# Altium footprint library 9-Comp+Tests.PcbLib: 125 footprints (part 7 of 8)
Each footprint in its own frame and in the unit in brackets; x right, y up, seen from the top. Pads: shape width x height; smd on the part's side, far side on the other; paste and mask are expansions set on the pad; w line width, h text height; cw(c..) or ccw(c..) is an arc to the next point about the centre after c.
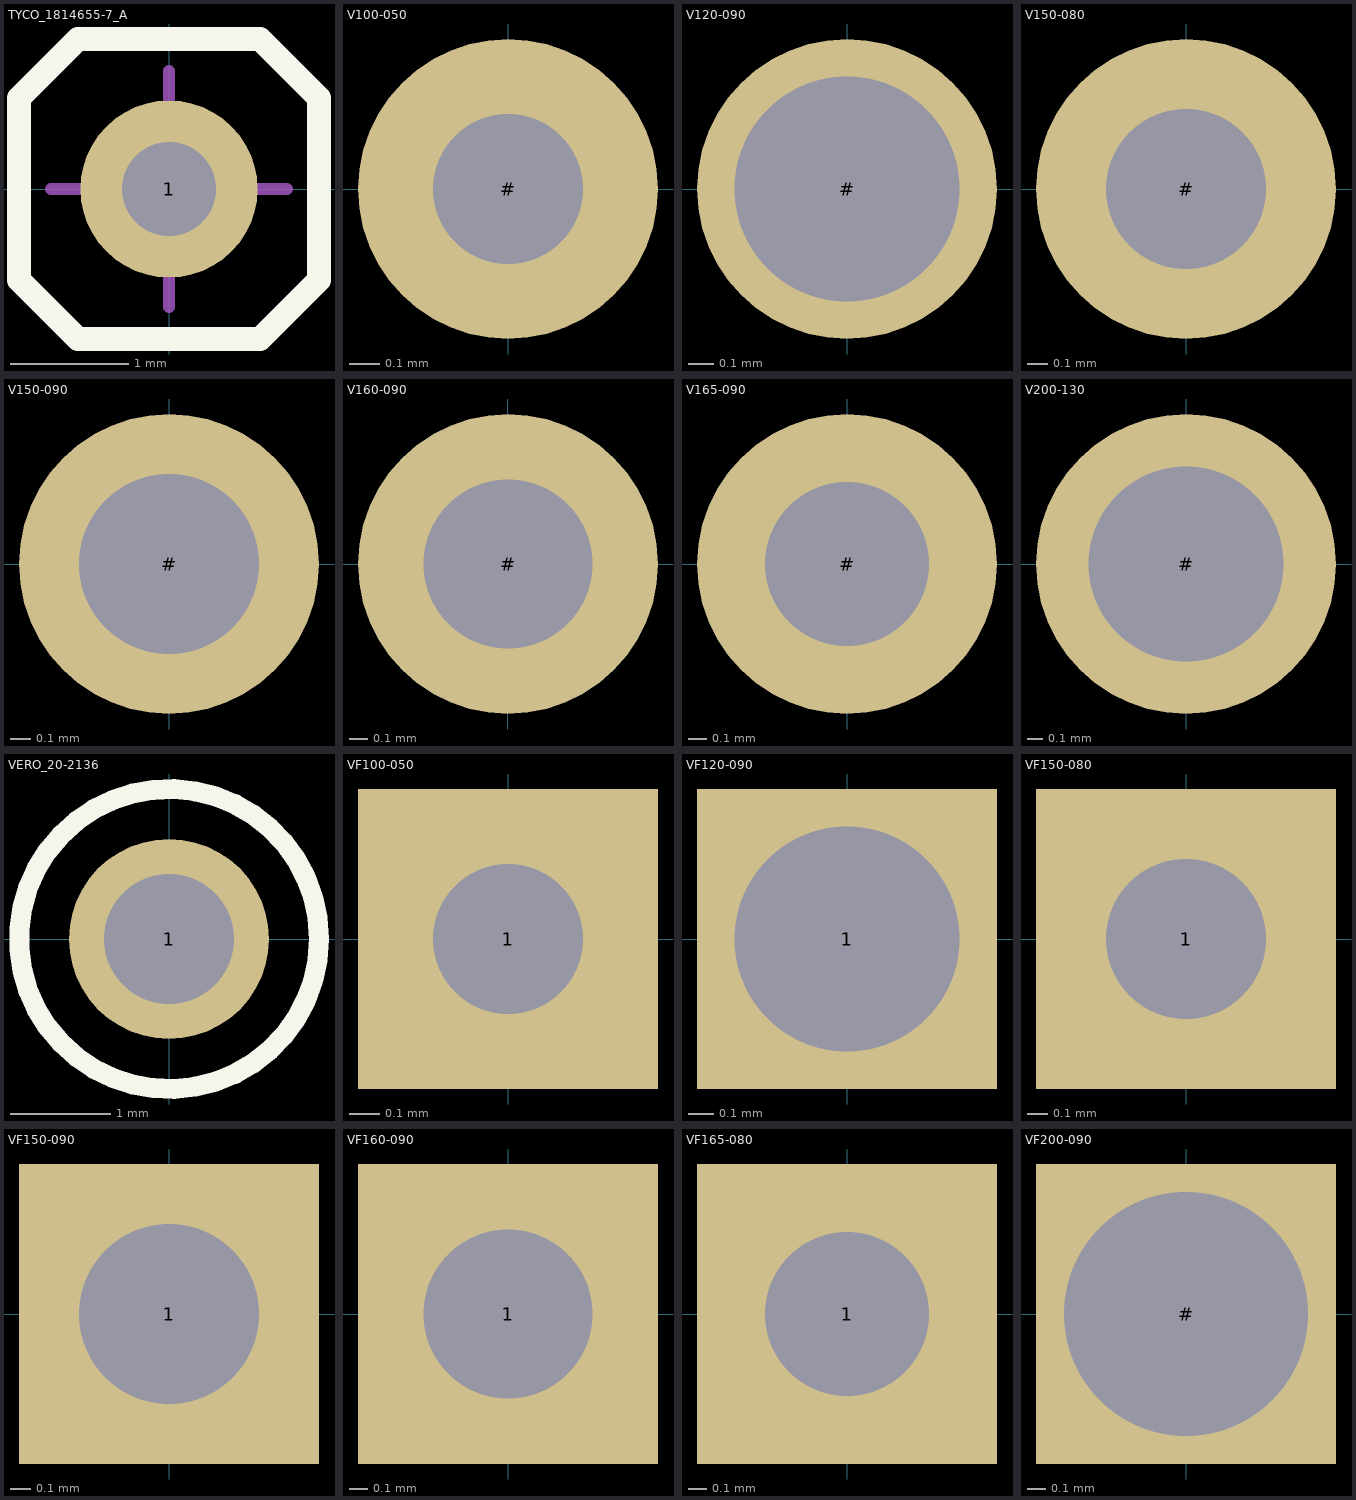
[diagram p6: the footprints below, top view; thin cyan lines are the x and y axes]

## TYCO_1814655-7_A [mm] "1 of 10 Positions, Pitch 2.54mm, Width 2.54mm, Heigh 4.4mm, SIP Straight Socket"
height 4.4
pads (1):
  round 1.5 hole 0.8: 1(0,0)
Top Overlay:
  lines w0.2: -1.27,-0.77 -0.77,-1.27 0.77,-1.27 1.27,-0.77 1.27,0.77 0.77,1.27 -0.77,1.27 -1.27,0.77 -1.27,-0.77
Mechanical 8:
  lines w0.1: -1,0 0,0 ; 0,-1 0,0 ; 0,1 0,0 ; 1,0 0,0
Mechanical 14:
  lines w0.1: -1.27,-0.77 -0.77,-1.27 0.77,-1.27 1.27,-0.77 1.27,0.77 0.77,1.27 -0.77,1.27 -1.27,0.77 -1.27,-0.77
3D body "TYCO_1814655-7_a.stp": height 4.4, standoff -2.9, extent -1.27,-1.27 1.27,1.27

## V100-050 [mm]
pads (1):
  round 1 hole 0.5: #(0,0)
3D body "v100-050.stp": height 0.02, standoff -1.65, extent -0.5,-0.5 0.5,0.5

## V120-090 [mm]
pads (1):
  round 1.2 hole 0.9: #(0,0)
3D body "v120-090.stp": height 0.02, standoff -1.65, extent -0.6,-0.6 0.6,0.6

## V150-080 [mm]
pads (1):
  round 1.5 hole 0.8: #(0,0)
3D body "v150-080.stp": height 0.02, standoff -1.65, extent -0.75,-0.75 0.75,0.75

## V150-090 [mm]
pads (1):
  round 1.5 hole 0.9: #(0,0)
3D body "v150-090.stp": height 0.02, standoff -1.65, extent -0.75,-0.75 0.75,0.75

## V160-090 [mm]
pads (1):
  round 1.6 hole 0.9: #(0,0)
3D body "v160-090.stp": height 0.02, standoff -1.65, extent -0.8,-0.8 0.8,0.8

## V165-090 [mm]
pads (1):
  round 1.65 hole 0.9: #(0,0)
3D body "v165-090.stp": height 0.02, standoff -1.65, extent -0.825,-0.825 0.825,0.825

## V200-130 [mm]
pads (1):
  round 2 hole 1.3: #(0,0)
3D body "v200-130.stp": height 0.02, standoff -1.65, extent -1,-1 1,1

## VERO_20-2136 [mm] "Black Bead PCB Terminal Test Pin (1.32 mm hole)"
height 5.4
pads (1):
  round 2 hole 1.3: 1(0,0)
Top Overlay:
  circle w0.2: c0,0 r1.5
Mechanical 14:
  circle w0.1: c0,0 r1.5
3D body "VERO_20-2136.stp": height 5.4, standoff -3.17, extent -1.5,-1.5 1.5,1.5

## VF100-050 [mm]
pads (1):
  rect 1x1 hole 0.5: 1(0,0)
3D body "vf100-050.stp": height 0.01, standoff -1.65, extent -0.5,-0.5 0.5,0.5

## VF120-090 [mm]
pads (1):
  rect 1.2x1.2 hole 0.9: 1(0,0)
3D body "vf120-090.stp": height 0.01, standoff -1.65, extent -0.6,-0.6 0.6,0.6

## VF150-080 [mm]
pads (1):
  rect 1.5x1.5 hole 0.8: 1(0,0)
3D body "vf150-080.stp": height 0.01, standoff -1.65, extent -0.75,-0.75 0.75,0.75

## VF150-090 [mm]
pads (1):
  rect 1.5x1.5 hole 0.9: 1(0,0)
3D body "vf150-090.stp": height 0.01, standoff -1.65, extent -0.75,-0.75 0.75,0.75

## VF160-090 [mm]
pads (1):
  rect 1.6x1.6 hole 0.9: 1(0,0)
3D body "v160-090.stp": height 0.02, standoff -1.65, extent -0.8,-0.8 0.8,0.8

## VF165-080 [mm]
pads (1):
  rect 1.65x1.65 hole 0.9: 1(0,0)
3D body "vf165-080.stp": height 0.01, standoff -1.65, extent -0.825,-0.825 0.825,0.825

## VF200-090 [mm]
pads (1):
  rect 1.6x1.6 hole 1.3: #(0,0)
3D body "vf200-090.stp": height 0.01, standoff -1.65, extent -0.8,-0.8 0.8,0.8